# Altium schematic symbol library 常用2.SchLib: 103 symbols
Pins are listed as number, name and electrical type; pins without a type are passive.

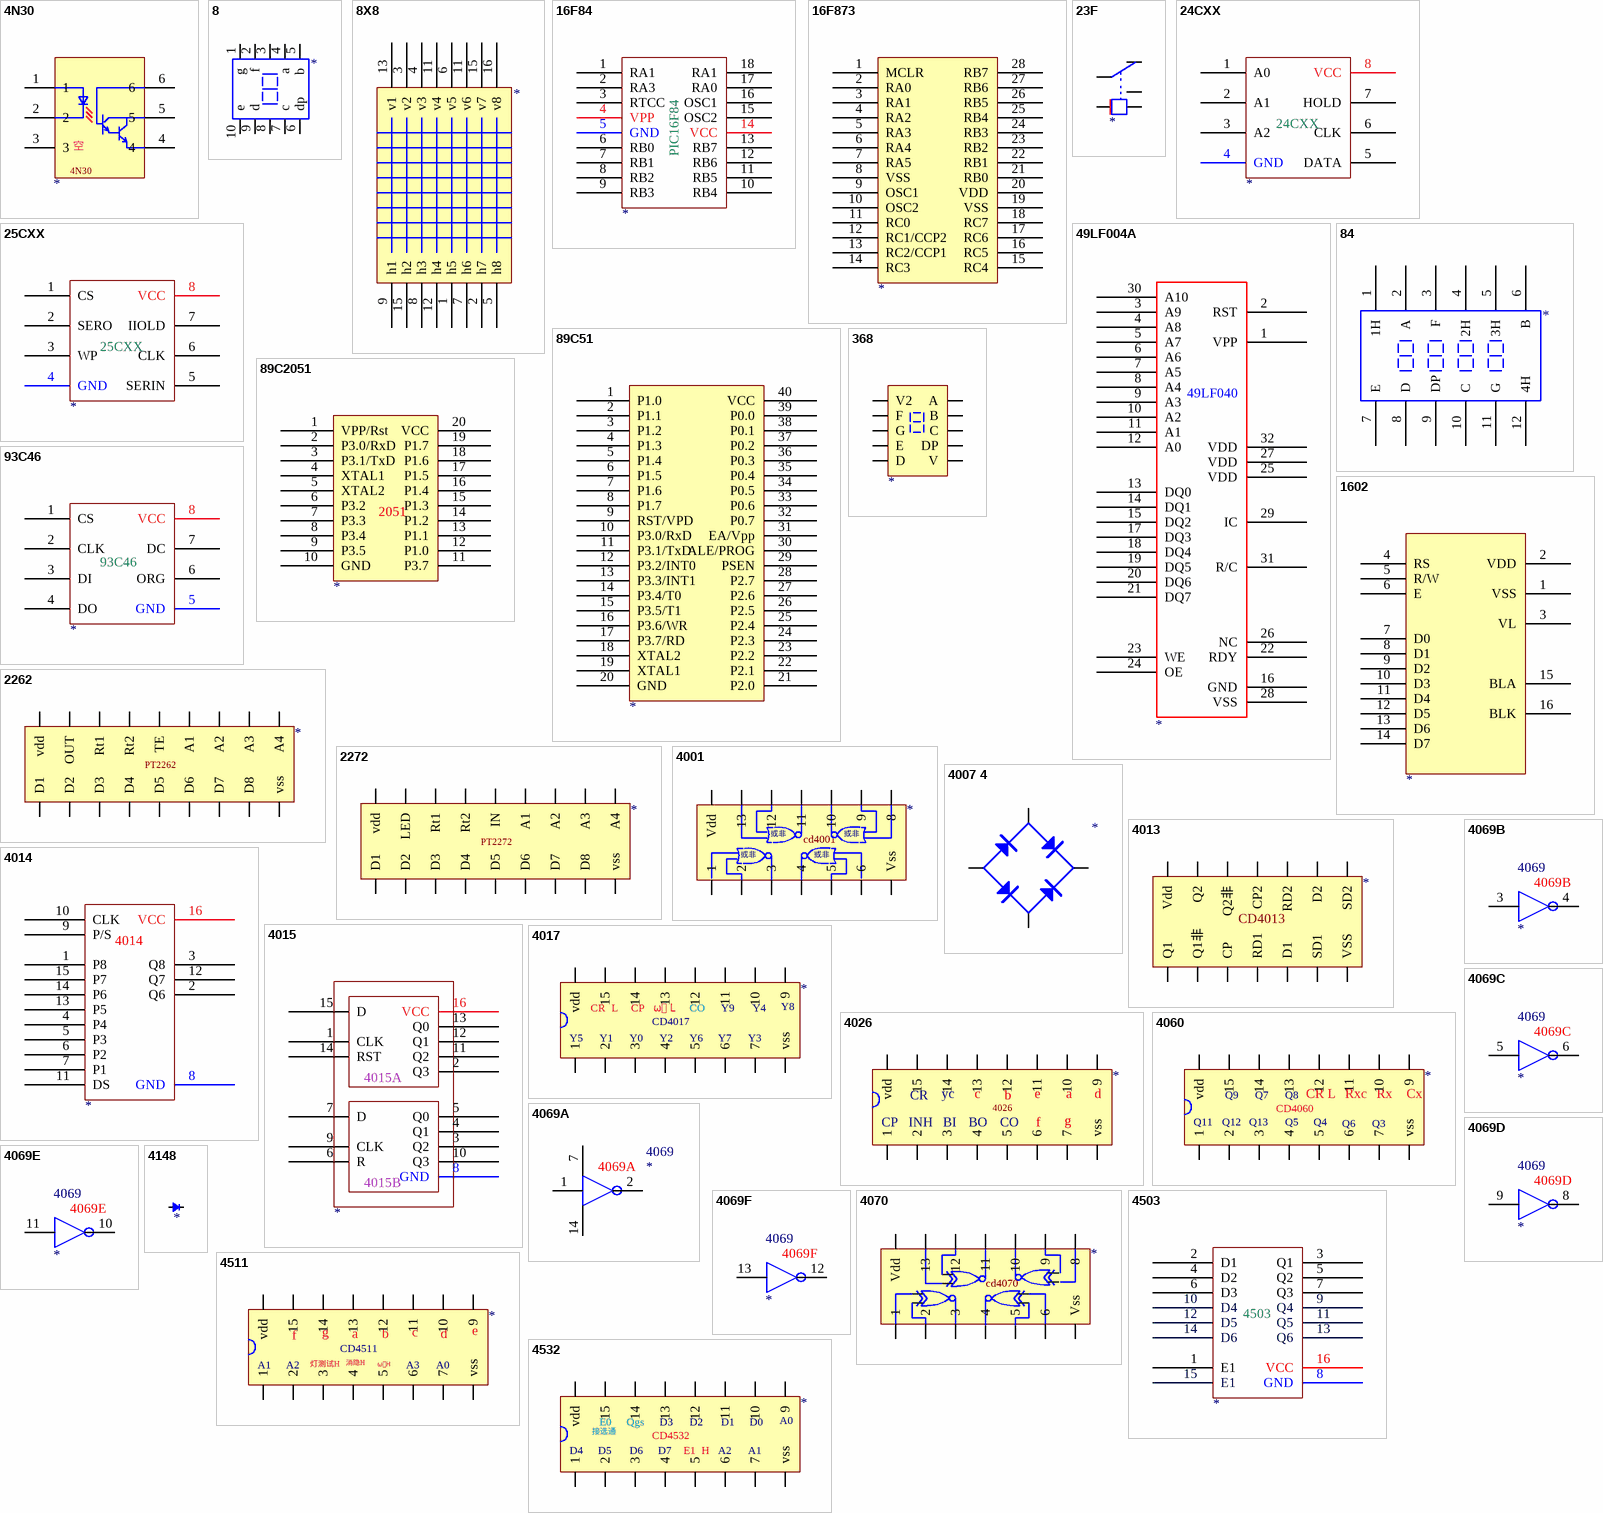
[diagram p0: symbols 4N30 to 4532]

## 4N30
designator ?
pins: 1, 2, 3, 4, 5, 6
text: 空

## 8
designator ?
pins: 1 g, 2 f, 3, 4 a, 5 b, 6 dp, 7 c, 8, 9 d, 10 e

## 8X8
designator ?
pins: 1 h5, 2 h7, 3 v2, 4 v3, 5 h8, 6 v5, 7 h6, 8 h3, 9 h1, 11 v4, 11 v6, 12 h4, 13 v1, 15 h2, 15 v7, 16 v8

## 16F84
designator ?
footprint DIP18
pins: 1 RA1, 2 RA3, 3 RTCC, 4 VPP, 5 GND, 6 RB0, 7 RB1, 8 RB2, 9 RB3, 10 RB4, 11 RB5, 12 RB6, 13 RB7, 14 VCC, 15 OSC2, 16 OSC1, 17 RA0, 18 RA1
text: PIC16F84

## 16F873
designator ?
pins: 1 MCLR, 2 RA0, 3 RA1, 4 RA2, 5 RA3, 6 RA4, 7 RA5, 8 VSS, 9 OSC1, 10 OSC2, 11 RC0, 12 RC1/CCP2, 13 RC2/CCP1, 14 RC3, 15 RC4, 16 RC5, 17 RC6, 18 RC7, 19 VSS, 20 VDD, 21 RB0, 22 RB1, 23 RB2, 24 RB3, 25 RB4, 26 RB5, 27 RB6, 28 RB7

## 23F
designator ?
pins: 1, 2, 3, 4, 5

## 24CXX
designator ?
footprint DIP8
pins: 1 A0, 2 A1, 3 A2, 4 GND, 5 DATA, 6 CLK, 7 HOLD, 8 VCC

## 25CXX
designator ?
footprint DIP8
pins: 1 CS, 2 SERO, 3 WP, 4 GND, 5 SERIN, 6 CLK, 7 IIOLD, 8 VCC

## 49LF004A
designator ?
footprint PLCC32P
pins: 1 VPP, 2 RST, 3 A9, 4 A8, 5 A7, 6 A6, 7 A5, 8 A4, 9 A3, 10 A2, 11 A1, 12 A0, 13 DQ0, 14 DQ1, 15 DQ2, 16 GND, 17 DQ3, 18 DQ4, 19 DQ5, 20 DQ6, 21 DQ7, 22 RDY, 23 WE, 24 OE, 25 VDD, 26 NC, 27 VDD, 28 VSS, 29 IC, 30 A10, 31 R/C, 32 VDD
text: 49LF040

## 84
designator ?
footprint .3684
pins: 1 1H, 2 A, 3 F, 4 2H, 5 3H, 6 B, 7 E, 8 D, 9 DP, 10 C, 11 G, 12 4H

## 89C51
designator ?
footprint DIP40
pins: 1 P1.0, 2 P1.1, 3 P1.2, 4 P1.3, 5 P1.4, 6 P1.5, 7 P1.6, 8 P1.7, 9 RST/VPD, 10 P3.0/RxD, 11 P3.1/TxD, 12 P3.2/INT0, 13 P3.3/INT1, 14 P3.4/T0, 15 P3.5/T1, 16 P3.6/WR, 17 P3.7/RD, 18 XTAL2, 19 XTAL1, 20 GND, 21 P2.0, 22 P2.1, 23 P2.2, 24 P2.3, 25 P2.4, 26 P2.5, 27 P2.6, 28 P2.7, 29 PSEN, 30 ALE/PROG, 31 EA/Vpp, 32 P0.7, 33 P0.6, 34 P0.5, 35 P0.4, 36 P0.3, 37 P0.2, 38 P0.1, 39 P0.0, 40 VCC

## 89C2051
designator ?
footprint DIP20
pins: 1 VPP/Rst, 2 P3.0/RxD, 3 P3.1/TxD, 4 XTAL1, 5 XTAL2, 6 P3.2, 7 P3.3, 8 P3.4, 9 P3.5, 10 GND, 11 P3.7, 12 P1.0, 13 P1.1, 14 P1.2, 15 P1.3, 16 P1.4, 17 P1.5, 18 P1.6, 19 P1.7, 20 VCC
text: 2051

## 93C46
designator ?
footprint DIP8
pins: 1 CS, 2 CLK, 3 DI, 4 DO, 5 GND, 6 ORG, 7 DC, 8 VCC

## 368
designator ?
pins: A, B, C, D, DP, E, F, G, V, V2

## 1602
designator ?
pins: 1 VSS, 2 VDD, 3 VL, 4 RS, 5 R/W, 6 E, 7 D0, 8 D1, 9 D2, 10 D3, 11 D4, 12 D5, 13 D6, 14 D7, 15 BLA, 16 BLK

## 2262
designator ?
pins: 1 D1, 2 D2, 3 D3, 4 D4, 5 D5, 6 D6, 7 D7, 8 D8, 9 vss, 10 A4, 11 A3, 12 A2, 13 A1, 14 TE, 15 Rt2, 16 Rt1, 17 OUT, 18 vdd
text: PT2262

## 2272
designator ?
pins: 1 D1, 2 D2, 3 D3, 4 D4, 5 D5, 6 D6, 7 D7, 8 D8, 9 vss, 10 A4, 11 A3, 12 A2, 13 A1, 14 IN, 15 Rt2, 16 Rt1, 17 LED, 18 vdd
text: PT2272

## 4001
designator ?
pins: 1, 2, 3, 4, 5, 6, 7 Vss, 8, 9, 10, 11, 12, 13, 14 Vdd
text: 或非; cd4001

## 4007 4
designator ?
pins: 1, 2, 3, 4

## 4013
designator ?
footprint DIP14
pins: 1 Q1, 2 Q1非, 3 CP, 4 RD1, 5 D1, 6 SD1, 7 VSS, 8 SD2, 9 D2, 10 RD2, 11 CP2, 12 Q2非, 13 Q2, 14 Vdd
text: CD4013

## 4014
designator ?
footprint DIP16
pins: 1 P8, 2 Q6, 3 Q8, 4 P4, 5 P3, 6 P2, 7 P1, 8 GND, 9 P/S, 10 CLK, 11 DS, 12 Q7, 13 P5, 14 P6, 15 P7, 16 VCC

## 4015
designator ?
footprint DIP16
pins: 1 CLK, 2 Q3, 3 Q2, 4 Q1, 5 Q0, 6 R, 7 D, 8 GND, 9 CLK, 10 Q3, 11 Q2, 12 Q1, 13 Q0, 14 RST, 15 D, 16 VCC
text: 4015A; 4015B

## 4017
designator ?
pins: 1, 2, 3, 4, 5, 6, 7, 9, 9 vss, 10, 11, 12, 13, 14, 15, 18 vdd
text: CR  L; CP; ѡͨ L; CO; Y9; Y4; Y8; CD4017; Y5; Y1; Y0; Y2; Y6; Y7; Y3

## 4026
designator ?
pins: 1, 2, 3, 4, 5, 6, 7, 9, 9 vss, 10, 11, 12, 13, 14, 15, 18 vdd
text: yc; c; e; a; d; CR; b; CP; INH; BI; BO; CO; f; g

## 4060
designator ?
pins: 1, 2, 3, 4, 5, 6, 7, 9, 9 vss, 10, 11, 12, 13, 14, 15, 18 vdd
text: Q9; Q7; Q8; CR L; Rxc; Rx; Cx; CD4060; Q11; Q12; Q13; Q5; Q4; Q6; Q3

## 4069A
designator 4069
footprint 4069
pins: 1, 2, 7, 14

## 4069B
designator 4069
footprint 4069
pins: 3, 4

## 4069C
designator 4069
footprint 4069
pins: 5, 6

## 4069D
designator 4069
footprint 4069
pins: 8, 9

## 4069E
designator 4069
footprint 4069
pins: 10, 11

## 4069F
designator 4069
footprint 4069
pins: 12, 13

## 4070
designator ?
pins: 1, 2, 3, 4, 5, 6, 7 Vss, 8, 9, 10, 11, 12, 13, 14 Vdd
text: cd4070

## 4148
designator ?
pins: A, K

## 4503
designator ?
footprint DIP16
pins: 1 E1, 2 D1, 3 Q1, 4 D2, 5 Q2, 6 D3, 7 Q3, 8 GND, 9 Q4, 10 D4, 11 Q5, 12 D5, 13 Q6, 14 D6, 15 E1, 16 VCC

## 4511
designator ?
pins: 1, 2, 3, 4, 5, 6, 7, 9, 9 vss, 10, 11, 12, 13, 14, 15, 18 vdd
text: g; a; b; c; d; e; f; CD4511; A1; A2; 灯测试H; 消隐H; ѡͨH; A3; A0

## 4532
designator ?
pins: 1, 2, 3, 4, 5, 6, 7, 9, 9 vss, 10, 11, 12, 13, 14, 15, 18 vdd
text: E0; Qgs; D3; D2; D1; D0; A0; 接选通; CD4532; D4; D5; D6; D7; E1  H; A2; A1

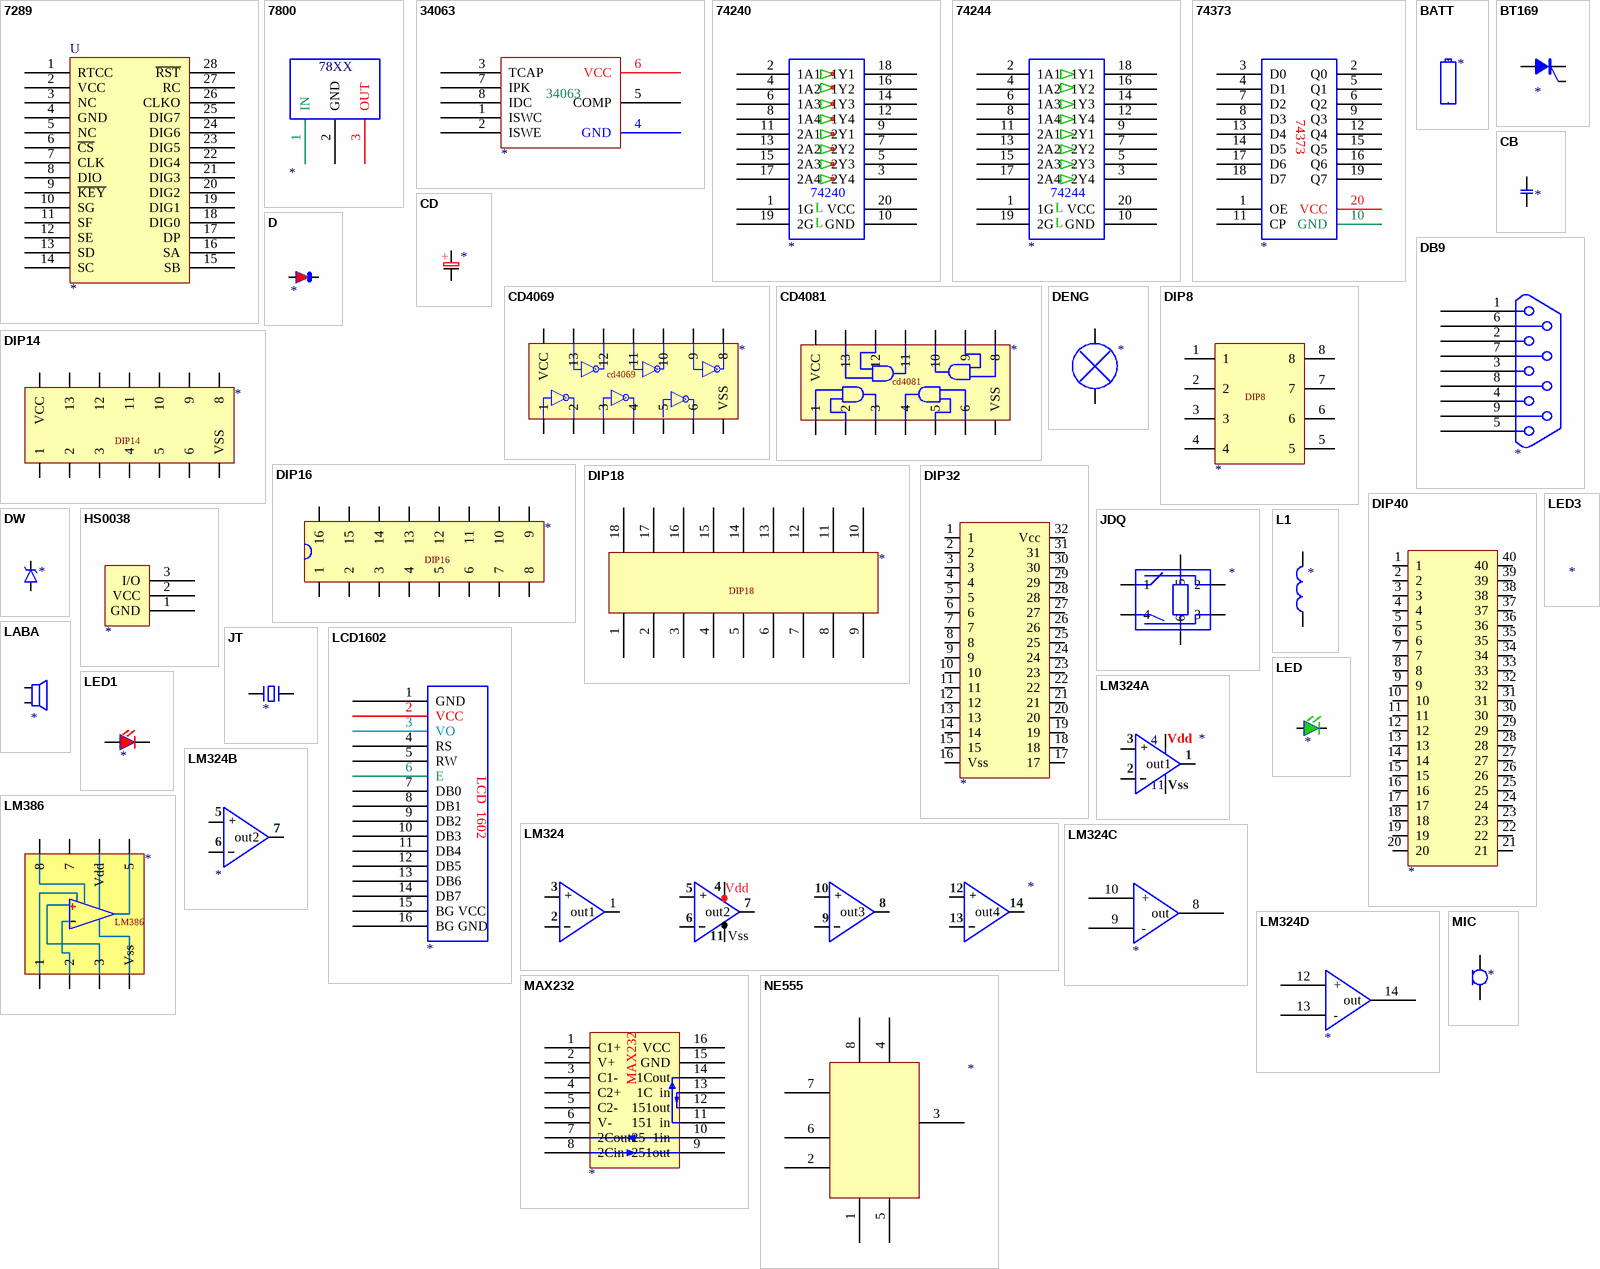
[diagram p1: symbols 7289 to NE555]

## 7289
designator U
footprint DIP28
pins: 1 RTCC, 2 VCC, 3 NC, 4 GND, 5 NC, 6 ~{CS}, 7 CLK, 8 DIO, 9 ~{KEY}, 10 SG, 11 SF, 12 SE, 13 SD, 14 SC, 15 SB, 16 SA, 17 DP, 18 DIG0, 19 DIG1, 20 DIG2, 21 DIG3, 22 DIG4, 23 DIG5, 24 DIG6, 25 DIG7, 26 CLKO, 27 RC, 28 ~{RST}

## 7800
designator ?
footprint TO220W
pins: 1 IN, 2 GND, 3 OUT
text: 78XX

## 34063
designator ?
footprint DIP8
pins: 1 ISWC, 2 ISWE, 3 TCAP, 4 GND, 5 COMP, 6 VCC, 7 IPK, 8 IDC

## 74240
designator ?
pins: 1 1G, 2 1A1, 3 2Y4, 4 1A2, 5 2Y3, 6 1A3, 7 2Y2, 8 1A4, 9 2Y1, 10 GND, 11 2A1, 12 1Y4, 13 2A2, 14 1Y3, 15 2A3, 16 1Y2, 17 2A4, 18 1Y1, 19 2G, 20 VCC
text: L

## 74244
designator ?
footprint DIP20
pins: 1 1G, 2 1A1, 3 2Y4, 4 1A2, 5 2Y3, 6 1A3, 7 2Y2, 8 1A4, 9 2Y1, 10 GND, 11 2A1, 12 1Y4, 13 2A2, 14 1Y3, 15 2A3, 16 1Y2, 17 2A4, 18 1Y1, 19 2G, 20 VCC
text: L

## 74373
designator ?
footprint DIP20
pins: 1 OE, 2 Q0, 3 D0, 4 D1, 5 Q1, 6 Q2, 7 D2, 8 D3, 9 Q3, 10 GND, 11 CP, 12 Q4, 13 D4, 14 D5, 15 Q5, 16 Q6, 17 D6, 18 D7, 19 Q7, 20 VCC

## BATT
designator ?
pins: 1, 1

## BT169
designator ?
pins: A, G, K

## CB
designator ?
footprint CB1
footprint CB2
pins: 1, 2

## CD
designator ?
footprint CD4
footprint CD8
pins: 1, 2
text: +

## CD4069
designator ?
pins: 1, 2, 3, 4, 5, 6, 7 VSS, 8, 9, 10, 11, 12, 13, 14 VCC
text: cd4069

## CD4081
designator ?
pins: 1, 2, 3, 4, 5, 6, 7 VSS, 8, 9, 10, 11, 12, 13, 14 VCC
text: cd4081

## D
designator ?
footprint 4148
footprint 4007
pins: A 1, K 2

## DB9
designator ?
footprint DB9U
footprint DB-9/M
pins: 1, 2, 3, 4, 5, 6, 7, 8, 9

## DENG
designator ?
pins: 1, 2

## DIP8
designator ?
footprint DIP8
pins: 1, 2, 3, 4, 5, 6, 7, 8

## DIP14
designator ?
footprint DIP14
pins: 1, 2, 3, 4, 5, 6, 7 VSS, 8, 9, 10, 11, 12, 13, 14 VCC

## DIP16
designator ?
footprint DIP16
pins: 1, 2, 3, 4, 5, 6, 7, 8, 9, 10, 11, 12, 13, 14, 15, 16

## DIP18
designator ?
pins: 1, 2, 3, 4, 5, 6, 7, 8, 9 vss, 10, 11, 12, 13, 14, 15, 16, 17, 18 vdd

## DIP32
designator ?
pins: 1, 2, 3, 4, 5, 6, 7, 8, 9, 10, 11, 12, 13, 14, 15, 16 Vss, 17, 18, 19, 20, 21, 22, 23, 24, 25, 26, 27, 28, 29, 30, 31, 32 Vcc

## DIP40
designator ?
footprint DIP40
pins: 1, 2, 3, 4, 5, 6, 7, 8, 9, 10, 11, 12, 13, 14, 15, 16, 17, 18, 19, 20, 21, 22, 23, 24, 25, 26, 27, 28, 29, 30, 31, 32, 33, 34, 35, 36, 37, 38, 39, 40

## DW
designator ?
footprint DW
footprint 4148
pins: A, K

## HS0038
designator ?
pins: 1 GND, 2 VCC, 3 I/O

## JDQ
designator ?
pins: 1, 2, 3, 4, 5, 6

## JT
designator ?
footprint JZ
pins: 1, 2

## L1
designator ?
footprint L100
pins: 1, 2

## LABA
designator ?
pins: 1, 2

## LCD1602
designator ?
footprint SIP16
pins: 1 GND, 2 VCC, 3 VO, 4 RS, 5 RW, 6 E, 7 DB0, 8 DB1, 9 DB2, 10 DB3, 11 DB4, 12 DB5, 13 DB6, 14 DB7, 15 BG VCC, 16 BG GND
text: LCD  1602

## LED
designator ?
footprint LED3
pins: A a, K k

## LED1
designator ?
footprint LED3
pins: 1 A, 2 K

## LED3
designator ?

## LM324
designator ?
pins: 1 out1, 2, 3, 4, 5, 6, 7 out2, 8 out3, 9, 10, 11, 12, 13, 14 out4
text: Vdd; +; Vss

## LM324A
designator ?
pins: 1 out1, 2, 3, 4, 11
text: Vdd; +; Vss

## LM324B
designator ?
pins: 5, 6, 7 out2
text: +

## LM324C
designator ?
pins: 8 out, 9 -, 10 +

## LM324D
designator ?
pins: 12 +, 13 -, 14 out

## LM386
designator ?
pins: 1, 2, 3, 4 Vss, 5, 6 Vdd, 7, 8

## MAX232
designator ?
footprint DIP16
pins: 1 C1+, 2 V+, 3 C1-, 4 C2+, 5 C2-, 6 V-, 7 2Cout, 8 2Cin, 9 251out, 10 25  1in, 11 151  in, 12 151out, 13 1C  in, 14 1Cout, 15 GND, 16 VCC

## MIC
designator ?
pins: 1, 2

## NE555
designator ?
pins: 1, 2, 3, 4, 5, 6, 7, 8

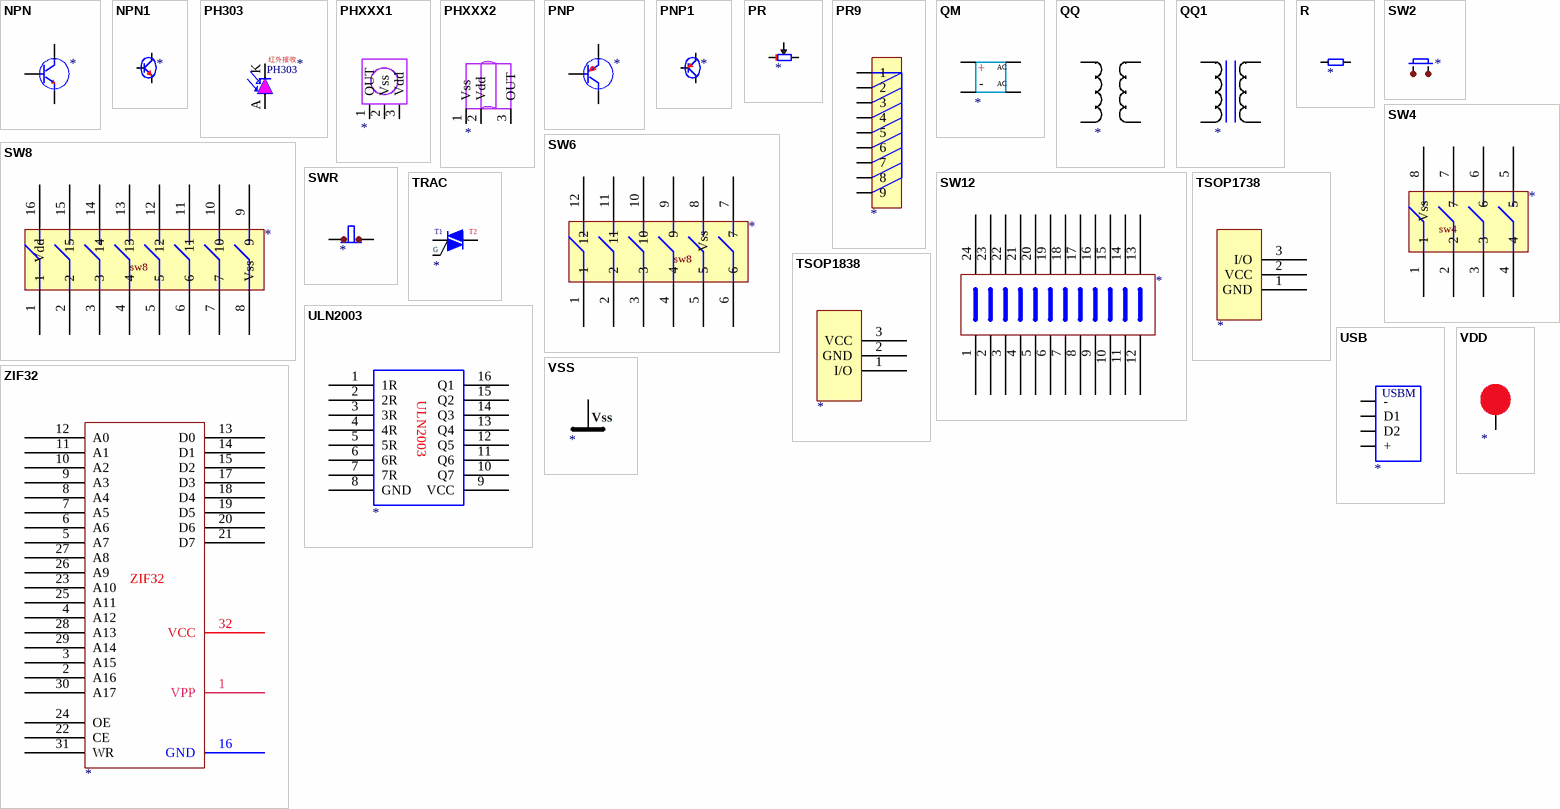
[diagram p2: symbols NPN to ZIF32]

## NPN
designator ?
footprint TO92C
footprint BC547
footprint C945
footprint TO92CF
pins: 1 b, 2 c, 3 e

## NPN1
designator ?
footprint TO92C
footprint BC547
footprint TO92CF
pins: B, C, E

## PH303
designator ?
pins: A, K
text: 红外接收

## PHXXX1
designator ?
pins: 1 OUT, 2 Vss, 3 Vdd

## PHXXX2
designator ?
pins: 1 Vss, 2 Vdd, 3 OUT

## PNP
designator ?
footprint TO92C
pins: 1 C, 2 B, 3 E

## PNP1
designator ?
footprint TO92C
footprint TO92CF
pins: B b, C, E

## PR
designator ?
pins: 1, 2, 3

## PR9
designator ?
pins: 1, 2, 3, 4, 5, 6, 7, 8, 9

## QM
designator ?
pins: 1, 2, 3, 4
text: AC; +; -

## QQ
designator ?
pins: 1, 2, 3, 4

## QQ1
designator ?
pins: 1, 2, 3, 4

## R
designator ?
footprint 1/8W
footprint 1/4W
footprint R3
pins: 1, 2

## SW2
designator ?
footprint SW2
footprint SW2L
pins: 1, 2, 3, 4

## SW4
designator ?
footprint DIP8
pins: 1, 2, 3, 4, 5, 6, 7, 8 Vss
text: sw4

## SW6
designator ?
pins: 1, 2, 3, 4, 5, 6, 7, 8 Vss, 9, 10, 11, 12
text: sw8

## SW8
designator ?
footprint DIP16
pins: 1, 2, 3, 4, 5, 6, 7, 8 Vss, 9, 10, 11, 12, 13, 14, 15, 16 Vdd
text: sw8

## SW12
designator ?
footprint DIP24P
pins: 1, 2, 3, 4, 5, 6, 7, 8, 9, 10, 11, 12, 13, 14, 15, 16, 17, 18, 19, 20, 21, 22, 23, 24

## SWR
designator ?
pins: 1, 2

## TRAC
designator ?
pins: 3, T1 1, T2 2
text: G

## TSOP1738
designator ?
pins: 1 GND, 2 VCC, 3 I/O

## TSOP1838
designator ?
pins: 1 I/O, 2 GND, 3 VCC

## ULN2003
designator ?
pins: 1 1R, 2 2R, 3 3R, 4 4R, 5 5R, 6 6R, 7 7R, 8 GND, 9 VCC, 10 Q7, 11 Q6, 12 Q5, 13 Q4, 14 Q3, 15 Q2, 16 Q1

## USB
designator ?
pins: +, -, D1, D2
text: USBM

## VDD
designator ?
pins: 1

## VSS
designator ?
pins: 1 (power)
text: Vss

## ZIF32
designator ?
footprint DIP32
pins: 1 VPP, 2 A16, 3 A15, 4 A12, 5 A7, 6 A6, 7 A5, 8 A4, 9 A3, 10 A2, 11 A1, 12 A0, 13 D0, 14 D1, 15 D2, 16 GND, 17 D3, 18 D4, 19 D5, 20 D6, 21 D7, 22 CE, 23 A10, 24 OE, 25 A11, 26 A9, 27 A8, 28 A13, 29 A14, 30 A17, 31 WR, 32 VCC